# EAGLE library part PCF8574A (library mbed-ics)
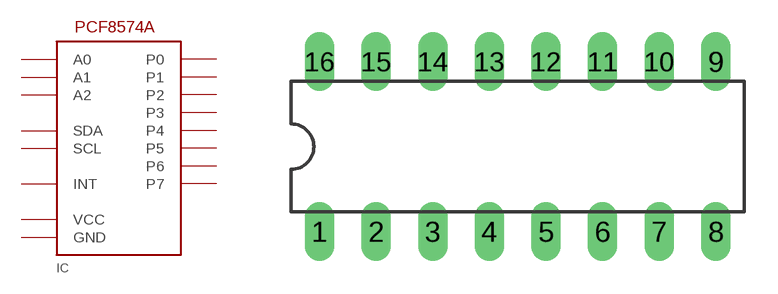
[diagram p7: symbol with the pads of DIL16; footprint DIL16]

Designator prefix IC

## PCF8574A  [DIL16]
1  A0
2  A1
3  A2
4  P0
5  P1
6  P2
7  P3
8  GND
9  P4
10  P5
11  P6
12  P7
13  INT
14  SCL
15  SDA
16  VCC

## Footprint DIL16 (pad centres in mm)
Dual In Line Package
drill 0.813 long: 1 -8.89,-3.81; 2 -6.35,-3.81; 3 -3.81,-3.81; 4 -1.27,-3.81; 5 1.27,-3.81; 6 3.81,-3.81; 7 6.35,-3.81; 8 8.89,-3.81; 9 8.89,3.81; 10 6.35,3.81; 11 3.81,3.81; 12 1.27,3.81; 13 -1.27,3.81; 14 -3.81,3.81; 15 -6.35,3.81; 16 -8.89,3.81